# Altium schematic symbol library BIB SCH GERAL.SchLib: 587 symbols (part 4 of 4)
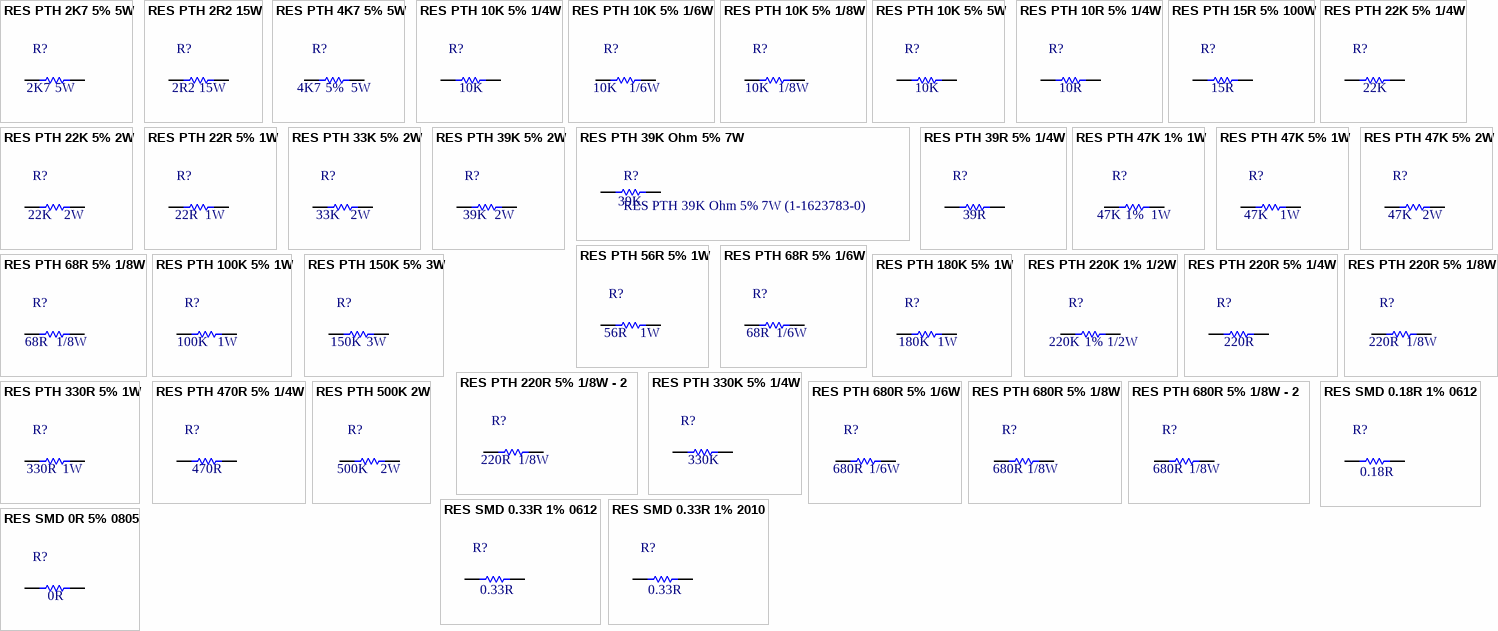
[diagram p18: symbols RES PTH 2K7 5% 5W to RES SMD 0R 5% 0805]

## RES PTH 10K 5% 1/8W
designator R?  value 10K  Power: 1/8W  (hidden comment: RES PTH 10K 5% 1/8W)
COD. CRISTOFOLI: EMP.00305; List: RES 10k OHM 1/8W 5% CF AXIAL//Generic; Tolerance: 5%
pins: 1, 2

## RES PTH 10K 5% 5W
designator R?  value 10K  (hidden comment: RES PTH 10K 5% 5W)
COD. CRISTOFOLI: EMP.50093; Tolerance: 5%; List: RES PTH 10K 5% 5W; Power: 5W
footprint RES5WVERT
pins: 1, 2

## RES PTH 10R 5% 1/4W
designator R?  value 10R  (hidden comment: RES PTH 10R 5% 1/4W)
COD. CRISTOFOLI: EMP.00194; List: RES 10 OHM 1/4W 5% AXIAL/CFR-25JB-52-10R/Yageo/Generic; Tolerance: 5%
pins: 1, 2

## RES PTH 15R 5% 100W
designator R?  value 15R  (hidden comment: RES PTH 15R 5% 100W)
COD. CRISTOFOLI: EMP.50003; Tolerance: 5%; List: RES PTH 15R 5% 100W
footprint RES100W
pins: 1, 2

## RES PTH 22K 5% 1/4W
designator R?  value 22K  (hidden comment: RES PTH 22K 5% 1/4W)
COD. CRISTOFOLI: EMP.00081; List: RES 22.0K OHM 1/4W 5% AXIAL - 1625875-6; Tolerance: 5%
pins: 1, 2

## RES PTH 22K 5% 2W
designator R?  value 22K  Power: 2W  (hidden comment: RES PTH 22K 5% 2W)
COD. CRISTOFOLI: EMP.00273; List: RES 22K OHM 2W 5% AXIAL//generic; Tolerance: 5%
pins: 1, 2

## RES PTH 22R 5% 1W
designator R?  value 22R  Power: 1W  (hidden comment: RES PTH 22R 5% 1W)
COD. CRISTOFOLI: EMP.50158; Tolerance: 5%; List: RES PTH 22R 5% 1W
footprint RES1W
pins: 1, 2

## RES PTH 33K 5% 2W
designator R?  value 33K  Power: 2W  (hidden comment: RES PTH 33K 5% 2W)
COD. CRISTOFOLI: EMP.00175; List: RES 33.0K OHM 2W 5% AXIAl/4-1625890-2/TE Connectivity; Tolerance: 5%
pins: 1, 2

## RES PTH 39K 5% 2W
designator R?  value 39K  Power: 2W  (hidden comment: RES PTH 39K 5% 2W)
COD. CRISTOFOLI: EMP.00102; List: RES 39K OHM 2W 5% RADIAL/ERG-2SJ393E/Panasonic Electronic Components; Tolerance: 5%
pins: 1, 2

## RES PTH 39K Ohm 5% 7W
designator R?, comment RES PTH 39K Ohm 5% 7W (1-1623783-0)
footprint 1-1623783-0
pins: 1, 2
text: 39K

## RES PTH 39R 5% 1/4W
designator R?  value 39R  (hidden comment: RES PTH 39R 5% 1/4W)
COD. CRISTOFOLI: EMP.00070; List: RESISTORES 39 OHM 1/4W 5% AXIAL / CFR-25JB-5239R / Generic; Tolerance: 5%
pins: 1, 2

## RES PTH 47K 1% 1W
designator R?  value 47K  Tolerance: 1%  Power: 1W  (hidden comment: RES PTH 47K 1% 1W)
COD. CRISTOFOLI: EMP.00363; List: RES 47K OHM 1W 1% AXIAL/GENERIC
pins: 1, 2

## RES PTH 47K 5% 1W
designator R?  value 47K  Power: 1W  (hidden comment: RES PTH 47K 5% 1W)
COD. CRISTOFOLI: EMP.00267; List: RES 47K OHM 1W 5% AXIAL/Generic; Tolerance: 5%
pins: 1, 2

## RES PTH 47K 5% 2W
designator R?  value 47K  Power: 2W  (hidden comment: RES PTH 47K 5% 2W)
COD. CRISTOFOLI: EMP.00390; List: RES 47K OHM 2W 5% AXIAL/FMP200JR-52-47K/yageo; Tolerance: 5%
pins: 1, 2

## RES PTH 56R 5% 1W
designator R?  value 56R  Power: 1W  (hidden comment: RES PTH 56R 5% 1W)
COD. CRISTOFOLI: EMP.00355; List: RES 56 OHM 1W 5% CARBON FILM AXIAL /GENERIC; Tolerance: 5%
pins: 1, 2

## RES PTH 68R 5% 1/6W
designator R?  value 68R  Power: 1/6W  (hidden comment: RES PTH 68R 5% 1/6W)
COD. CRISTOFOLI: EMP.00174; List: RESISTOR CARBON 68R 0.25W 5% CR16/CFR16J68R/TE CONNECTIVITY/GENERIC; Tolerance: 5%
pins: 1, 2

## RES PTH 68R 5% 1/8W
designator R?  value 68R  Power: 1/8W  (hidden comment: RES PTH 68R 5% 1/8W)
COD. CRISTOFOLI: EMP.00306; List: RES 68 OHM 1/8W 5% CF AXIAL//Generic; Tolerance: 5%
pins: 1, 2

## RES PTH 100K 5% 1W
designator R?  value 100K  Power: 1W  (hidden comment: RES PTH 100K 5% 1W)
COD. CRISTOFOLI: EMP.00268; List: RES 100K OHM 1W 5% AXIAL/Generic
pins: 1, 2

## RES PTH 150K 5% 3W
designator R?  value 150K  Power: 3W  (hidden comment: RES PTH 150K 5% 3W)
COD. CRISTOFOLI: EMP.50146; Tolerance: 5%; List: RES PTH 150K 5% 3W
footprint RES3WVERT
pins: 1, 2

## RES PTH 180K 5% 1W
designator R?  value 180K  Power: 1W  (hidden comment: RES PTH 180K 5% 1W)
COD. CRISTOFOLI: EMP.00201; List: RES 180K OHM 1W 5% AXIAL/PR01000101803JR500/Vishay BC Components/Generic; Tolerance: 5%
pins: 1, 2

## RES PTH 220K 1% 1/2W
designator R?  value 220K  Tolerance: 1%  Power: 1/2W  (hidden comment: RES PTH 220K 1% 1/2W)
COD. CRISTOFOLI: EMP.00250; List: RES 220K OHM 1/2W 1% AXIAL/HVR3700002203FR500/Vishay BC Components
pins: 1, 2

## RES PTH 220R 5% 1/4W
designator R?  value 220R  (hidden comment: RES PTH 220R 5% 1/4W)
COD. CRISTOFOLI: EMP.00354; List: RES 220 OHM 1/4W 5% CARBON FILM AXIAL /GENERIC; Tolerance: 5%
pins: 1, 2

## RES PTH 220R 5% 1/8W
designator R?  value 220R  Power: 1/8W  (hidden comment: RES PTH 220R 5% 1/8W)
COD. CRISTOFOLI: EMP.00290; List: RES 220 OHM 1/8W 5% CARBON FILM/CF18JT220R/Generic; Tolerance: 5%
pins: 1, 2

## RES PTH 220R 5% 1/8W - 2
designator R?  value 220R  Power: 1/8W  (hidden comment: RES PTH 220R 5% 1/8W - 2)
COD. CRISTOFOLI: EMP.00289; List: MULTICOMP - MCCFR0W8J0221A20 - CARBON FILM RESISTOR, 220 OHM, 125mW, 5%; Tolerance: 5%
pins: 1, 2

## RES PTH 330K 5% 1/4W
designator R?  value 330K  (hidden comment: RES PTH 330K 5% 1/4W)
COD. CRISTOFOLI: EMP.00330; List: RES 330K OHM 1/4W 5% AXIAL/CFR-25JB-52-330K/Generic; Tolerance: 5%
pins: 1, 2

## RES PTH 330R 5% 1W
designator R?  value 330R  Power: 1W  (hidden comment: RES PTH 330R 5% 1W)
COD. CRISTOFOLI: EMP.00195; List: RES 330 OHM 1W 5% AXIAL/PR01000103300JA100/Vishay BC Components; Tolerance: 5%
pins: 1, 2

## RES PTH 470R 5% 1/4W
designator R?  value 470R  (hidden comment: RES PTH 470R 5% 1/4W)
COD. CRISTOFOLI: EMP.00068; List: RESISTORES axial 470 OHM 1/4W 5% CARBON FILM / CF14JT470R / Generic; Tolerance: 5%
pins: 1, 2

## RES PTH 500K 2W
designator R?  value 500K  Power: 2W  (hidden comment: RES PTH 500K 2W)
COD. CRISTOFOLI: EMP.50157; Tolerance: 5%; List: RES PTH 500K 2W
footprint RES2W VERTICAL
footprint RES2W
pins: 1, 2

## RES PTH 680R 5% 1/6W
designator R?  value 680R  Power: 1/6W  (hidden comment: RES PTH 680R 5% 1/6W)
COD. CRISTOFOLI: EMP.00171; List: RESISTOR, CARBON , 680R, 0.25W, 5% CR16/CFR16J680R/TE CONNECTIVITY/Generic; Tolerance: 5%
pins: 1, 2

## RES PTH 680R 5% 1/8W
designator R?  value 680R  Power: 1/8W  (hidden comment: RES PTH 680R 5% 1/8W)
COD. CRISTOFOLI: EMP.00293; List: RES 680 OHM 1/8W 5% CARBON FILM AXIAL/Generic; Tolerance: 5%
pins: 1, 2

## RES PTH 680R 5% 1/8W - 2
designator R?  value 680R  Power: 1/8W  (hidden comment: RES PTH 680R 5% 1/8W - 2)
COD. CRISTOFOLI: EMP.00303; List: RES 680 OHM 1/8W 5% CF AXIAL//Generic; Tolerance: 5%
pins: 1, 2

## RES SMD 0.18R 1% 0612
designator R?  value 0.18R  (hidden comment: RES SMD 0.18R 1% 0612)
Thick Film Resistors - SMD 0612 1W 1% 180mOhm AEC-Q200; Manufacturer: KOA; Manufacturer Part Number: WK73S2HTTER180F; COD. CRISTOFOLI: EMP.00000; List: RES 0.18 OHM 1W 5% 0612 SMD/WK73S2HTTER180F/KOA SPEER; Tolerance: 1%
pins: 1, 2

## RES SMD 0.33R 1% 0612
designator R?  value 0.33R  (hidden comment: RES SMD 0.33R 1% 0612)
Thick Film Resistors - SMD 1W, 0.33ohm, 1%; Manufacturer: KOA SPEER; Manufacturer Part Number: WK73S2HTTER330F; COD. CRISTOFOLI: EMP.00000; List: RES 0.33 OHM 1W 1% 0612 SMD/WK73S2HTTER330F/KOA SPEER; Tolerance: 1%
pins: 1, 2

## RES SMD 0.33R 1% 2010
designator R?  value 0.33R  (hidden comment: RES SMD 0.33R 1% 2010)
Thick Film Resistors - SMD ResHighPowerA 2010 R330 1% 1W TC100; Manufacturer: BOURNS; Manufacturer Part Number: CRM2010A-FX-R330ELF; COD. CRISTOFOLI: EMP.00000; List: RES 0.33 OHM 1W 1% 2010 SMD/CRM2010A-FX-R330ELF/BOURNS; Tolerance: 1%
pins: 1, 2

## RES SMD 0R 5% 0805
designator R?  value 0R  (hidden comment: RES SMD 0R 5% 0805)
COD. CRISTOFOLI: EMP.00109; List: RES 0.0 OHM 1/8W JUMP 0805 SMD/ERJ-6GEY0R00V/Panasonic Electronic Components; Tolerance: 5%
footprint res0805ok
pins: 1, 2

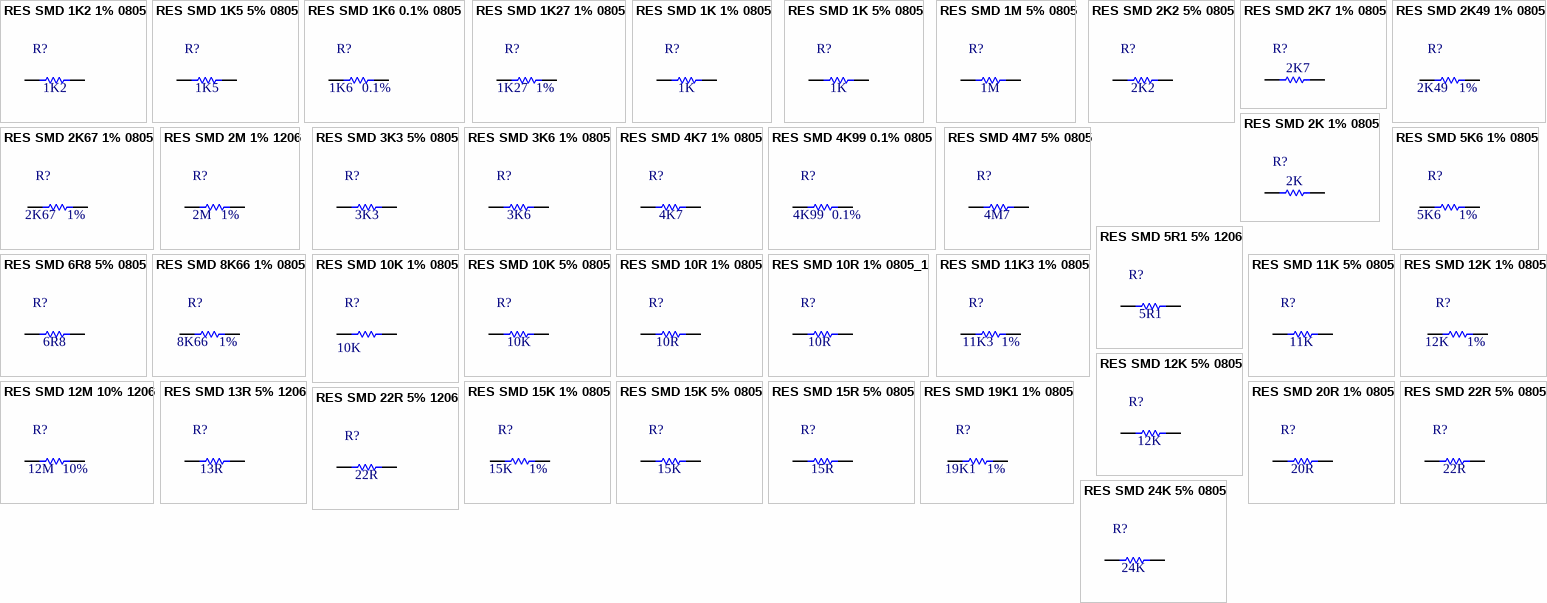
[diagram p12: symbols RES SMD 1K2 1% 0805 to RES SMD 24K 5% 0805]

## RES SMD 1K2 1% 0805
designator R?  value 1K2  (hidden comment: RES SMD 1K2 1% 0805)
COD. CRISTOFOLI: EMP.50111; List: RES SMD 1K2 1% 0805; Tolerance: 1%
footprint res0805ok
pins: 1, 2

## RES SMD 1K5 5% 0805
designator R?  value 1K5  (hidden comment: RES SMD 1K5 5% 0805)
COD. CRISTOFOLI: EMP.00138; List: RES 1.5K OHM 1/8W 5% 0805 SMD/ERJ-6GEYJ152V/Panasonic; Tolerance: 5%
footprint res0805ok
pins: 1, 2

## RES SMD 1K6 0.1% 0805
designator R?  value 1K6  Tolerance: 0.1%  (hidden comment: RES SMD 1K6 0.1% 0805)
COD. CRISTOFOLI: EMP.00204; List: RES 1.6K OHM 1/8W .1% 0805 SMD/ERA-6AEB162V/Panasonic Electronic Components/Generic
footprint res0805ok
pins: 1, 2

## RES SMD 1K27 1% 0805
designator R?  value 1K27  Tolerance: 1%  (hidden comment: RES SMD 1K27 1% 0805)
COD. CRISTOFOLI: EMP.00198; List: RES 1.27K OHM 1/8W 1% 0805 SMD/RC0805FR-071K27L/Yageo/Generic
footprint res0805ok
pins: 1, 2

## RES SMD 1K 1% 0805
designator R?  value 1K  (hidden comment: RES SMD 1K 1% 0805)
COD. CRISTOFOLI: EMP.50098; List: RES SMD 1K 1% 0805; Tolerance: 1%
footprint res0805ok
pins: 1, 2

## RES SMD 1K 5% 0805
designator R?  value 1K  (hidden comment: RES SMD 1K 5% 0805)
COD. CRISTOFOLI: EMP.00016; List: RESISTORES – SMD 1K OHM 5% - YAGEO RC0805JR-071KL / ROHM MCR10EZHJ102/Generic; Tolerance: 5%
footprint res0805ok
pins: 1, 2

## RES SMD 1M 5% 0805
designator R?  value 1M  (hidden comment: RES SMD 1M 5% 0805)
COD. CRISTOFOLI: EMP.00017; List: RESISTORES - SMD 1M OHM 5% - YAGEO RC0805JR-071ML; Tolerance: 5%
footprint res0805ok
pins: 1, 2

## RES SMD 2K2 5% 0805
designator R?  value 2K2  (hidden comment: RES SMD 2K2 5% 0805)
COD. CRISTOFOLI: EMP.00071; List: RESISTORES 2.2K OHM 1/8W 5% 0805 SMD / RCG08052K20JNEA / Generic; Tolerance: 5%
footprint res0805ok
pins: 1, 2

## RES SMD 2K7 1% 0805
designator R?  value 2K7  (hidden comment: RES SMD 2K7 1% 0805)
COD. CRISTOFOLI: EMP.50109; List: RES SMD 2K7 1% 0805; Tolerance: 1%
footprint res0805ok
pins: 1, 2

## RES SMD 2K49 1% 0805
designator R?  value 2K49  Tolerance: 1%  (hidden comment: RES SMD 2K49 1% 0805)
COD. CRISTOFOLI: EMP.00397; List: RES SMD 2.49K OHM 1% 1/8W 0805/RC0805FR-072K49L/Yageo
footprint res0805ok
pins: 1, 2

## RES SMD 2K67 1% 0805
designator R?  value 2K67  Tolerance: 1%  (hidden comment: RES SMD 2K67 1% 0805)
COD. CRISTOFOLI: EMP.00358; List: RES SMD 2.67K OHM 1% 1/8W 0805/RC0805FR-072K67L/Panasonic
footprint RES0805OK
footprint res0805ok
pins: 1, 2

## RES SMD 2K 1% 0805
designator R?  value 2K  (hidden comment: RES SMD 2K 1% 0805)
COD. CRISTOFOLI: EMP.50110; List: RES SMD 2K 1% 0805; Tolerance: 1%
footprint res0805ok
pins: 1, 2

## RES SMD 2M 1% 1206
designator R?  value 2M  Tolerance: 1%  (hidden comment: RES SMD 2M 1% 1206)
COD. CRISTOFOLI: EMP.00098; List: RES 2M OHM 1/4W 1% 1206 SMD/ERJ-8ENF2004V/Panasonic Electronic Components
pins: 1, 2

## RES SMD 3K3 5% 0805
designator R?  value 3K3  (hidden comment: RES SMD 3K3 5% 0805)
COD. CRISTOFOLI: EMP.00327; List: RES SMD 3.3K OHM 5% 1/8W 0805/Generic/Generic; Tolerance: 5%
footprint res0805ok
pins: 1, 2

## RES SMD 3K6 1% 0805
designator R?  value 3K6  (hidden comment: RES SMD 3K6 1% 0805)
COD. CRISTOFOLI: EMP.50104; Tolerance: 1%; List: RES SMD 3K6 1% 0805
footprint res0805ok
pins: 1, 2

## RES SMD 4K7 1% 0805
designator R?  value 4K7  (hidden comment: RES SMD 4K7 1% 0805)
COD. CRISTOFOLI: EMP.50103; Tolerance: 1%; List: RES SMD 4K7 1% 0805
footprint res0805ok
pins: 1, 2

## RES SMD 4K99 0.1% 0805
designator R?  value 4K99  Tolerance: 0.1%  (hidden comment: RES SMD 4K99 0.1% 0805)
COD. CRISTOFOLI: EMP.00230; List: RES 4.99K OHM 1/8W 1% 0805/ERA-6AEB4991V/Panasonic Electronic Components/Generic
footprint res0805ok
pins: 1, 2

## RES SMD 4M7 5% 0805
designator R?  value 4M7  (hidden comment: RES SMD 4M7 5% 0805)
COD. CRISTOFOLI: EMP.00247; List: RES SMD 4.7M OHM 5% 1/8W 0805/ERJ-6GEYJ475V/Panasonic Electronic Components; Tolerance: 5%
footprint res0805ok
pins: 1, 2

## RES SMD 5K6 1% 0805
designator R?  value 5K6  Tolerance: 1%  (hidden comment: RES SMD 5K6 1% 0805)
COD. CRISTOFOLI: EMP.00386; List: RES SMD 5.6K OHM 1% 1/8W 0805/Generic
footprint res0805ok
pins: 1, 2

## RES SMD 5R1 5% 1206
designator R?  value 5R1  (hidden comment: RES SMD 5R1 5% 1206)
COD. CRISTOFOLI: EMP.00100; List: RES 5.1 OHM 1/4W 5% 1206 SMD/ERJ-8GEYJ5R1V/Panasonic; Tolerance: 5%
footprint RES1206
pins: 1, 2

## RES SMD 6R8 5% 0805
designator R?  value 6R8  (hidden comment: RES SMD 6R8 5% 0805)
COD. CRISTOFOLI: EMP.00096; List: RES 6.8 OHM 1/8W 5% 0805 SMD/ERJ-6GEYJ6R8V/Panasonic/Generic; Tolerance: 5%
footprint res0805ok
pins: 1, 2

## RES SMD 8K66 1% 0805
designator R?  value 8K66  Tolerance: 1%  (hidden comment: RES SMD 8K66 1% 0805)
COD. CRISTOFOLI: EMP.00347; List: RES SMD 8.66K OHM 1% 1/8W 0805/ERJ-6ENF8661V/Panasonic
footprint res0805ok
pins: 1, 2

## RES SMD 10K 1% 0805
designator R?  value 10K  (hidden comment: RES SMD 10K 1% 0805)
COD. CRISTOFOLI: EMP.50116; List: RES SMD 10K 1% 0805; Tolerance: 1%
footprint res0805ok
pins: 1, 2

## RES SMD 10K 5% 0805
designator R?  value 10K  (hidden comment: RES SMD 10K 5% 0805)
COD. CRISTOFOLI: EMP.00015; List: RESISTORES - SMD 10K OHM 5% - YAGEO RC0805JR-0710KL / ROHM MCR10EZHJ103/Generic; Tolerance: 5%
footprint res0805ok
pins: 1, 2

## RES SMD 10R 1% 0805
designator R?  value 10R  (hidden comment: RES SMD 10R 1% 0805)
COD. CRISTOFOLI: EMP.50001; List: RES SMD 10R 1% 0805; Tolerance: 1%
footprint res0805ok
pins: 1, 2

## RES SMD 10R 1% 0805_1
designator R?, comment value 10R  (hidden comment: RES SMD 10R 1% 0805)
COD. CRISTOFOLI: EMP.50001; List: RES SMD 10R 1% 0805; Tolerance: 1%
footprint res0805ok
pins: 1, 2

## RES SMD 11K3 1% 0805
designator R?  value 11K3  Tolerance: 1%  (hidden comment: RES SMD 11K3 1% 0805)
COD. CRISTOFOLI: EMP.00107; List: RES 11.3K OHM 1/8W 1% 0805 SMD/RC0805FR-0711K3L/Yageo
footprint res0805ok
pins: 1, 2

## RES SMD 11K 5% 0805
designator R?  value 11K  (hidden comment: RES SMD 11K 5% 0805)
COD. CRISTOFOLI: EMP.00092; List: RES 11K OHM 1/8W 5% 0805 SMD/ERJ-6GEYJ113V/Yageo; Tolerance: 5%
footprint res0805ok
pins: 1, 2

## RES SMD 12K 1% 0805
designator R?  value 12K  Tolerance: 1%  (hidden comment: RES SMD 12K 1% 0805)
COD. CRISTOFOLI: EMP.00345; List: RES SMD 12K OHM 1% 1/8W 0805/RC0805FR-0712KL/Yageo
footprint res0805ok
pins: 1, 2

## RES SMD 12K 5% 0805
designator R?  value 12K  (hidden comment: RES SMD 12K 5% 0805)
COD. CRISTOFOLI: EMP.00063; List: RESISTORES 12K OHM 1/8W 5% 0805 SMD / ERJ-6GEYJ123V / Generic; Tolerance: 5%
footprint res0805ok
pins: 1, 2

## RES SMD 12M 10% 1206
designator R?  value 12M  Tolerance: 10%  (hidden comment: RES SMD 12M 10% 1206)
COD. CRISTOFOLI: EMP.00091; List: RES 12M OHM 1/4W 10% 1206 SMD/RJ-8GEYK126V/Yageo
footprint res1206
pins: 1, 2

## RES SMD 13R 5% 1206
designator R?  value 13R  (hidden comment: RES SMD 13R 5% 1206)
Manufacturer: YAGEO; Manufacturer Part Number: RC1206JR-0713RL; COD. CRISTOFOLI: EMP.00439; List: RES SMD 13 OHM 5% 1/4W 1206 / RC1206JR-0713RL; Tolerance: 5%
footprint res1206
pins: 1, 2

## RES SMD 15K 1% 0805
designator R?  value 15K  Tolerance: 1%  (hidden comment: RES SMD 15K 1% 0805)
COD. CRISTOFOLI: EMP.00407; List: RES SMD 15K OHM 1 % 1/8W 0805/Generic
footprint res0805ok
pins: 1, 2

## RES SMD 15K 5% 0805
designator R?  value 15K  (hidden comment: RES SMD 15K 5% 0805)
COD. CRISTOFOLI: EMP.00163; List: RES 15K OHM 1/8W 5% 0805 SMD/ ERJ-6GEYJ153V/Panasonic; Tolerance: 5%
footprint res0805ok
pins: 1, 2

## RES SMD 15R 5% 0805
designator R?  value 15R  (hidden comment: RES SMD 15R 5% 0805)
COD. CRISTOFOLI: EMP.00269; List: RES SMD 15 OHM 5% 1/8W 0805/ GENERIC; Tolerance: 5%
footprint res0805ok
pins: 1, 2

## RES SMD 19K1 1% 0805
designator R?  value 19K1  Tolerance: 1%  (hidden comment: RES SMD 19K1 1% 0805)
COD. CRISTOFOLI: EMP.00349; List: RES SMD 19.1K OHM 1% 1/8W 0805/RC0805FR-0719K1L/Yageo
footprint res0805ok
pins: 1, 2

## RES SMD 20R 1% 0805
designator R?  value 20R  (hidden comment: RES SMD 20R 1% 0805)
COD. CRISTOFOLI: EMP.50100; Tolerance: 1%; List: RES SMD 20R 1% 0805
footprint res0805ok
pins: 1, 2

## RES SMD 22R 5% 0805
designator R?  value 22R  (hidden comment: RES SMD 22R 5% 0805)
COD. CRISTOFOLI: EMP.00126; List: RES 22 OHM 1/8W 5% 0805/RMCF0805JT22R0/Generic; Tolerance: 5%
footprint res0805ok
pins: 1, 2

## RES SMD 22R 5% 1206
designator R?  value 22R  (hidden comment: RES SMD 22R 5% 1206)
Manufacturer: YAGEO; Manufacturer Part Number: AC1206JR-0722RL; COD. CRISTOFOLI: EMP.00458; Voltage: 200V; List: RES 22 OHM 1/4W 5% 1206 SMD; Tolerance: 5%
footprint RES1206
pins: 1, 2

## RES SMD 24K 5% 0805
designator R?  value 24K  (hidden comment: RES SMD 24K 5% 0805)
COD. CRISTOFOLI: EMP.00139; List: RES 24K OHM 1/8W 5% 0805 SMD/ERJ-6GEYJ243V/Panasonic; Tolerance: 5%
footprint res0805ok
pins: 1, 2

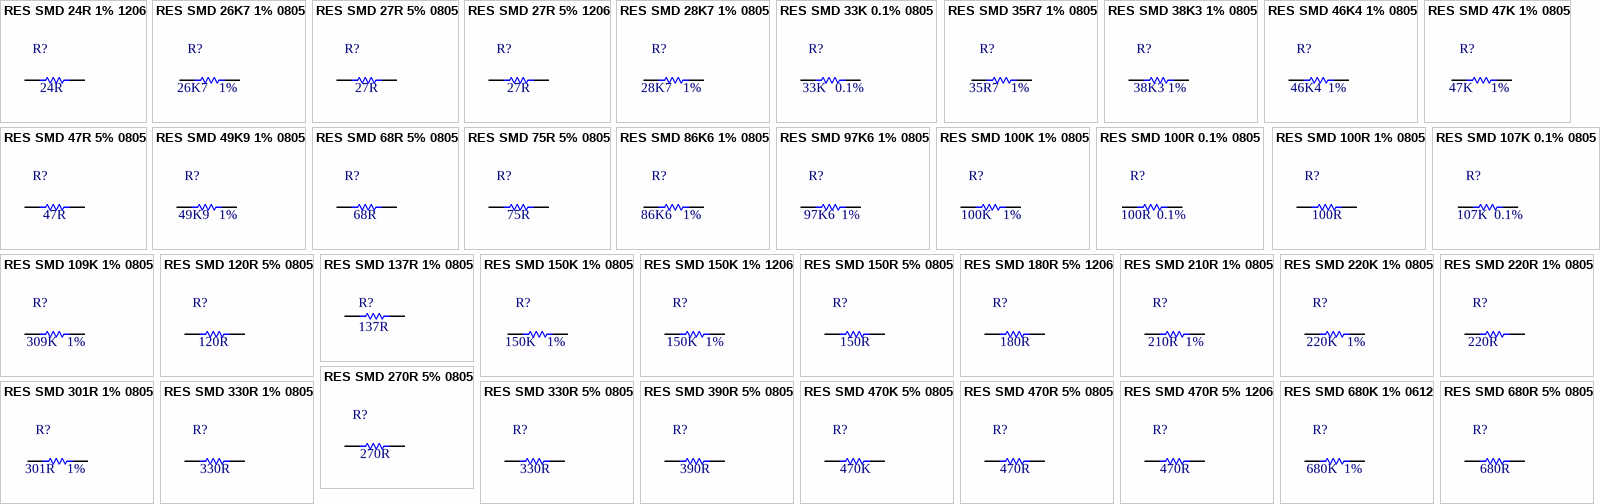
[diagram p13: symbols RES SMD 24R 1% 1206 to RES SMD 680R 5% 0805]

## RES SMD 24R 1% 1206
designator R?  value 24R  (hidden comment: RES SMD 24R 1% 1206)
COD. CRISTOFOLI: EMP.50096; List: RES SMD 24R 1% 1206; Tolerance: 1%
footprint RES1206
pins: 1, 2

## RES SMD 26K7 1% 0805
designator R?  value 26K7  Tolerance: 1%  (hidden comment: RES SMD 26K7 1% 0805)
COD. CRISTOFOLI: EMP.00398; List: RES SMD 26.7K OHM 1% 1/8W 0805/RC0805FR-0726K7L/Yageo
footprint res0805ok
pins: 1, 2

## RES SMD 27R 5% 0805
designator R?  value 27R  (hidden comment: RES SMD 27R 5% 0805)
COD. CRISTOFOLI: EMP.00149; List: RES 27 OHM 1/8W 5% 0805 SMD/ERJ-6GEYJ270V/Panasonic; Tolerance: 5%
footprint res0805ok
pins: 1, 2

## RES SMD 27R 5% 1206
designator R?  value 27R  (hidden comment: RES SMD 27R 5% 1206)
COD. CRISTOFOLI: EMP.00456; List: RES 27 OHM 1/2W 5% 1206 SMD / CRGH1206J27R; Tolerance: 5%
footprint RES1206
pins: 1, 2

## RES SMD 28K7 1% 0805
designator R?  value 28K7  Tolerance: 1%  (hidden comment: RES SMD 28K7 1% 0805)
COD. CRISTOFOLI: EMP.00340; List: RES SMD 28.7K OHM 1% 1/8W 0805/ERJ-6ENF2872V/Panasonic
footprint res0805ok
pins: 1, 2

## RES SMD 33K 0.1% 0805
designator R?  value 33K  Tolerance: 0.1%  (hidden comment: RES SMD 33K 0.1% 0805)
COD. CRISTOFOLI: EMP.00213; List: RES 33K OHM 1/8W .1% 0805 SMD/ERA-6AEB333V/Panasonic Electronic Components/GENERIC
footprint res0805ok
pins: 1, 2

## RES SMD 35R7 1% 0805
designator R?  value 35R7  Tolerance: 1%  (hidden comment: RES SMD 35R7 1% 0805)
COD. CRISTOFOLI: EMP.00344; List: RES SMD 35.7 OHM 1% 1/8W 0805/RC0805FR-0735R7L/Yageo
footprint res0805ok
pins: 1, 2

## RES SMD 38K3 1% 0805
designator R?  value 38K3  Tolerance: 1%  (hidden comment: RES SMD 38K3 1% 0805)
COD. CRISTOFOLI: EMP.00167; List: RES 38.3K OHM 1/8W 1% 0805 SMD / RC0805FR-0738K3L/Yageo
footprint res0805ok
pins: 1, 2

## RES SMD 46K4 1% 0805
designator R?  value 46K4  Tolerance: 1%  (hidden comment: RES SMD 46K4 1% 0805)
COD. CRISTOFOLI: EMP.00197; List: RES 46.4K OHM 1/8W 1% 0805 SMD/RC0805FR-0746K4L/Yageo/Generic
footprint res0805ok
pins: 1, 2

## RES SMD 47K 1% 0805
designator R?  value 47K  Tolerance: 1%  (hidden comment: RES SMD 47K 1% 0805)
COD. CRISTOFOLI: EMP.00386; List: RES SMD 5.6K OHM 1% 1/8W 0805/Generic
footprint res0805ok
pins: 1, 2

## RES SMD 47R 5% 0805
designator R?  value 47R  (hidden comment: RES SMD 47R 5% 0805)
COD. CRISTOFOLI: EMP.00111; List: RES 47 OHM 1/8W 5% 0805 SMD/ERJ-6GEYJ470V/Panasonic; Tolerance: 5%
footprint res0805ok
pins: 1, 2

## RES SMD 49K9 1% 0805
designator R?  value 49K9  Tolerance: 1%  (hidden comment: RES SMD 49K9 1% 0805)
COD. CRISTOFOLI: EMP.00246; List: RES SMD 49.9K OHM 1% 1/8W 0805/CRCW080549K9FKEB/Vishay Dale
footprint res0805ok
pins: 1, 2

## RES SMD 68R 5% 0805
designator R?  value 68R  (hidden comment: RES SMD 68R 5% 0805)
COD. CRISTOFOLI: EMP.00143; List: RES 68 OHM 1/4W 5% 0805 SMD/ERJ-P06J680V/Panasonic; Tolerance: 5%
footprint res0805ok
pins: 1, 2

## RES SMD 75R 5% 0805
designator R?  value 75R  (hidden comment: RES SMD 75R 5% 0805)
COD. CRISTOFOLI: EMP.00320; List: RES SMD 75 OHM 5% 1/8W 0805/RC2012J750CS/Generic; Power: 1/8W; Tolerance: 5%
footprint res0805ok
pins: 1, 2

## RES SMD 86K6 1% 0805
designator R?  value 86K6  Tolerance: 1%  (hidden comment: RES SMD 86K6 1% 0805)
COD. CRISTOFOLI: EMP.00360; List: RES SMD 86.6K OHM 1% 1/8W 0805/ERJ-6ENF8662V/Panasonic
footprint res0805ok
pins: 1, 2

## RES SMD 97K6 1% 0805
designator R?  value 97K6  Tolerance: 1%  (hidden comment: RES SMD 97K6 1% 0805)
COD. CRISTOFOLI: EMP.00108; List: RES 97,6K  OHM 1/8W 1% 0805 SMD/RC0805FR-0797K6L/Yageo
footprint res0805ok
pins: 1, 2

## RES SMD 100K 1% 0805
designator R?  value 100K  Tolerance: 1%  (hidden comment: RES SMD 100K 1% 0805)
COD. CRISTOFOLI: EMP.00207; List: RES 100K OHM 1/8W 1% 0805 SMD/Panasonic Electronic Components/Generic
footprint res0805ok
pins: 1, 2

## RES SMD 100R 0.1% 0805
designator R?  value 100R  Tolerance: 0.1%  (hidden comment: RES SMD 100R 0.1% 0805)
COD. CRISTOFOLI: EMP.00203; List: RES 100 OHM 1/8W .1% 0805 SMD/ERA-6AEB101V/Panasonic Electronic Components/Generic
footprint res0805ok
pins: 1, 2

## RES SMD 100R 1% 0805
designator R?  value 100R  (hidden comment: RES SMD 100R 1% 0805)
COD. CRISTOFOLI: EMP.50097; List: RES SMD 100R 1% 0805; Tolerance: 1%
footprint res0805ok
pins: 1, 2

## RES SMD 107K 0.1% 0805
designator R?  value 107K  Tolerance: 0.1%  (hidden comment: RES SMD 107K 0.1% 0805)
COD. CRISTOFOLI: EMP.00205; List: RES 107K OHM 1/8W .1% 0805 SMD/P107KDATR-ND/Panasonic Electronic Components/Generic
footprint res0805ok
pins: 1, 2

## RES SMD 109K 1% 0805
designator R?  value 309K  Tolerance: 1%  (hidden comment: RES SMD 109K 1% 0805)
COD. CRISTOFOLI: EMP.00248; List: RES SMD 309K OHM 1% 1/8W 0805/CRCW0805309KFKEA/Vishay Dale
footprint res0805ok
pins: 1, 2

## RES SMD 120R 5% 0805
designator R?  value 120R  (hidden comment: RES SMD 120R 5% 0805)
COD. CRISTOFOLI: EMP.00238; List: RES SMD 120 OHM 5% 1/8W 0805/RMCF0805JT120R/Stackpole Electronics Inc/Generic; Tolerance: 5%
footprint res0805ok
pins: 1, 2

## RES SMD 137R 1% 0805
designator R?  value 137R  (hidden comment: RES SMD 137R 1% 0805)
Manufacturer: YAGEO; Manufacturer Part Number: RC0805FR-07137RL; COD. CRISTOFOLI: EMP.00460; List: RES SMD 137 OHM 1% 1/8W 0805; Tolerance: 1%
footprint res0805ok
pins: 1, 2

## RES SMD 150K 1% 0805
designator R?  value 150K  Tolerance: 1%  (hidden comment: RES SMD 150K 1% 0805)
COD. CRISTOFOLI: EMP.00357; List: RES SMD 150K OHM 1% 1/8W 0805/Generic
footprint res0805ok
pins: 1, 2

## RES SMD 150K 1% 1206
designator R?  value 150K  Tolerance: 1%  (hidden comment: RES SMD 150K 1% 1206)
COD. CRISTOFOLI: EMP.00176; List: Resistors - SMD 1206 150Kohms 1% 1/4W/ERJ-S08F1503V/Panasonic/Generic
footprint res1206
pins: 1, 2

## RES SMD 150R 5% 0805
designator R?  value 150R  (hidden comment: RES SMD 150R 5% 0805)
COD. CRISTOFOLI: EMP.00014; List: RESISTORES - SMD 150R OHM 5% SMT 0805 – YAGEO RC0805JR-07150RL / YAGEO RC0805JR-07150RL; Tolerance: 5%
footprint res0805ok
pins: 1, 2

## RES SMD 180R 5% 1206
designator R?  value 180R  (hidden comment: RES SMD 180R 5% 1206)
COD. CRISTOFOLI: EMP.00275; List: RES SMD 180 OHM 5% 1/4W 1206/ Generic; Tolerance: 5%
footprint res1206
pins: 1, 2

## RES SMD 210R 1% 0805
designator R?  value 210R  Tolerance: 1%  (hidden comment: RES SMD 210R 1% 0805)
COD. CRISTOFOLI: EMP.00166; List: RES 210 OHM 1/8W 1% 0805 SMD/ RC0805FR-07210RL/Yageo
footprint res0805ok
pins: 1, 2

## RES SMD 220K 1% 0805
designator R?  value 220K  Tolerance: 1%  (hidden comment: RES SMD 220K 1% 0805)
COD. CRISTOFOLI: EMP.00281; List: RES SMD 220K OHM 1% 1/8W 0805/Generic
footprint res0805ok
pins: 1, 2

## RES SMD 220R 1% 0805
designator R?  value 220R  (hidden comment: RES SMD 220R 1% 0805)
COD. CRISTOFOLI: EMP.50113; List: RES SMD 220R 1% 0805; Tolerance: 1%
footprint res0805ok
pins: 1, 2

## RES SMD 270R 5% 0805
designator R?  value 270R  (hidden comment: RES SMD 270R 5% 0805)
COD. CRISTOFOLI: EMP.00064; List: RESISTORES 270 OHM 1/8W 5% 0805 / RMCF0805JT270R / Generic; Tolerance: 5%
footprint res0805ok
pins: 1, 2

## RES SMD 301R 1% 0805
designator R?  value 301R  Tolerance: 1%  (hidden comment: RES SMD 301R 1% 0805)
COD. CRISTOFOLI: EMP.00359; List: RES SMD 301 OHM 1% 1/8W 0805/ERJ-6ENF3010V/Panasonic
footprint res0805ok
pins: 1, 2

## RES SMD 330R 1% 0805
designator R?  value 330R  (hidden comment: RES SMD 330R 1% 0805)
COD. CRISTOFOLI: EMP.50102; Tolerance: 1%; List: RES SMD 330R 1% 0805
footprint res0805ok
pins: 1, 2

## RES SMD 330R 5% 0805
designator R?  value 330R  (hidden comment: RES SMD 330R 5% 0805)
COD. CRISTOFOLI: EMP.00239; List: RES SMD 330 OHM 5% 1/8W 0805/RMCF0805JT330R/Stackpole Electronics Inc/Generic; Tolerance: 5%
footprint res0805ok
pins: 1, 2

## RES SMD 390R 5% 0805
designator R?  value 390R  (hidden comment: RES SMD 390R 5% 0805)
COD. CRISTOFOLI: EMP.00113; List: RES 390 OHM 1/8W 5% 0805 SMD/ERJ-6GEYJ391V/Panasonic; Tolerance: 5%
footprint res0805ok
pins: 1, 2

## RES SMD 470K 5% 0805
designator R?  value 470K  (hidden comment: RES SMD 470K 5% 0805)
COD. CRISTOFOLI: EMP.00280; List: RES SMD 470K OHM 5% 1/8W 0805/generic; Tolerance: 5%
footprint res0805ok
pins: 1, 2

## RES SMD 470R 5% 0805
designator R?  value 470R
COD. CRISTOFOLI: EMP.00069; Tolerance: 5%; List: RESISTORES 470 OHM 1/8W 5% 0805 SMD / ERJ-6GEYJ471V / Generic
footprint res0805ok
pins: 1, 2

## RES SMD 470R 5% 1206
designator R?  value 470R  (hidden comment: RES SMD 470R 5% 1206)
COD. CRISTOFOLI: EMP.00202; List: RES 470 OHM 1/4W 5% 1206 SMD/RC1206JR-07470RL/Yageo/Generic; Tolerance: 5%
footprint res1206
pins: 1, 2

## RES SMD 680K 1% 0612
designator R?, comment value 680K  Tolerance: 1%  (hidden comment: RES SMD 680K 1% 1206)
COD. CRISTOFOLI: EMP.00067; List: RESISTORES 680K OHM 1/4W 1% 1206 SMD / ERJ-8ENF6803V / Generic
footprint res1206
pins: 1, 2

## RES SMD 680R 5% 0805
designator R?  value 680R  (hidden comment: RES SMD 680R 5% 0805)
COD. CRISTOFOLI: EMP.00145; List: RES 680 OHM 1/8W 5% 0805 SMD/ERJ-6GEYJ681V/Panasonic; Tolerance: 5%
footprint res0805ok
pins: 1, 2

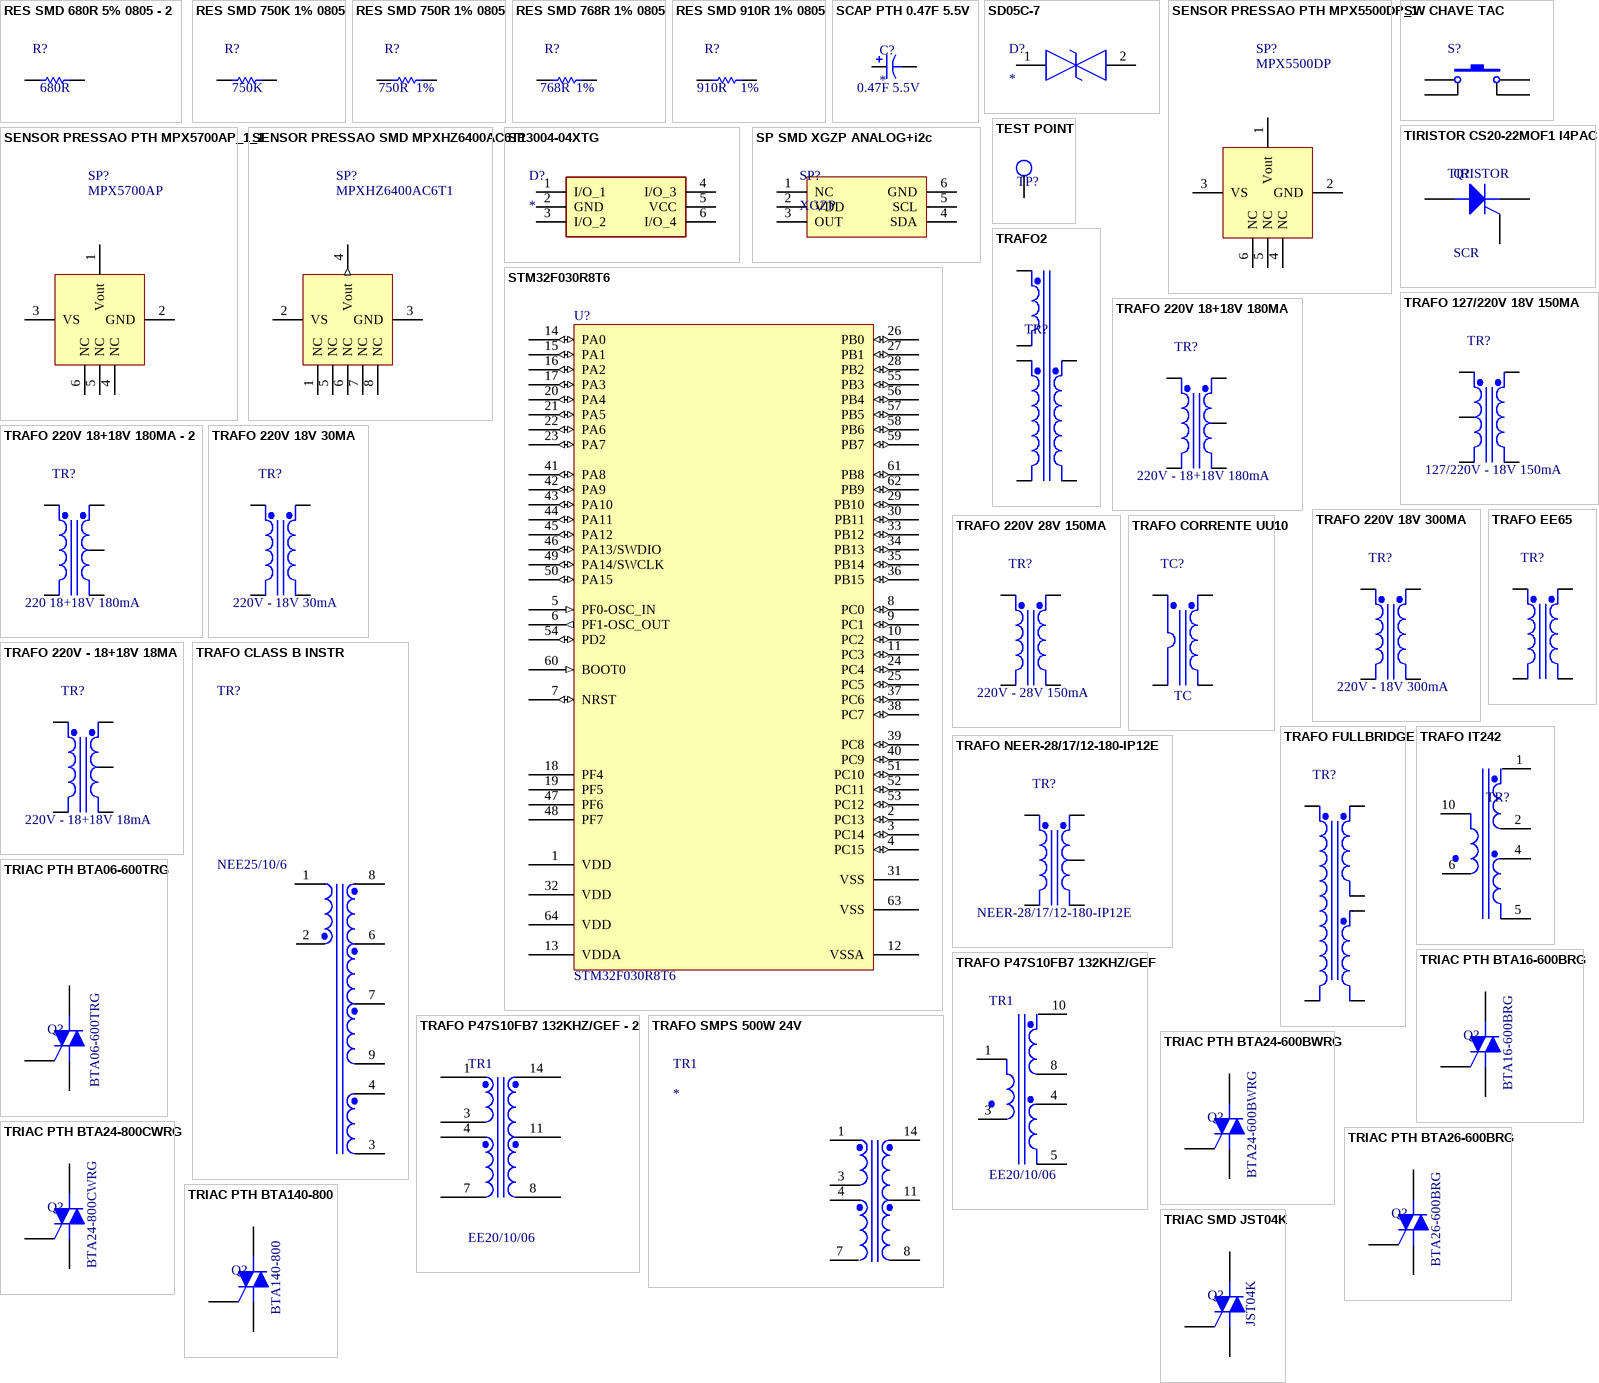
[diagram p14: symbols RES SMD 680R 5% 0805 - 2 to TRIAC SMD JST04K]

## RES SMD 680R 5% 0805 - 2
designator R?  value 680R  (hidden comment: RES SMD 680R 5% 0805 - 2)
COD. CRISTOFOLI: EMP.00180; List: RES 680 OHM 1/8W 5% 0805 SMD/CRCW0805680RJNEA/Vishay Dale/Generic; Tolerance: 5%
footprint res0805ok
pins: 1, 2

## RES SMD 750K 1% 0805
designator R?  value 750K  (hidden comment: RES SMD 750K 1% 0805)
COD. CRISTOFOLI: EMP.50159; Tolerance: 1%; List: RES SMD 750K 1% 0805
footprint res0805ok
pins: 1, 2

## RES SMD 750R 1% 0805
designator R?  value 750R  Tolerance: 1%  (hidden comment: RES SMD 750R 1% 0805)
COD. CRISTOFOLI: EMP.00066; List: RESISTORES 750 OHM 1/8W 1% 0805 SMD / ERJ-6ENF7500V / Generic
footprint res0805ok
pins: 1, 2

## RES SMD 768R 1% 0805
designator R?  value 768R  Tolerance: 1%  (hidden comment: RES SMD 768R 1% 0805)
COD. CRISTOFOLI: EMP.00112; List: RES 768 OHM 1/8W 1% 0805 SMD/RC0805FR-07768RL/Yageo
footprint res0805ok
pins: 1, 2

## RES SMD 910R 1% 0805
designator R?  value 910R  Tolerance: 1%  (hidden comment: RES SMD 910R 1% 0805)
COD. CRISTOFOLI: EMP.00346; List: RES SMD 910 OHM 1% 1/8W 0805/ERJ-6ENF9100V/Panasonic
footprint res0805ok
pins: 1, 2

## SCAP PTH 0.47F 5.5V
designator C?
Supercapacitors / Ultracapacitors 0.47F 5.5V -20+80% Type H
footprint CAP11.5X4.5X5
pins: 1, 2
text: 0.47F 5.5V

## SD05C-7
designator D?
TVS Diode (Bi-directional); Manufacturer_Name: Diodes Incorporated; Manufacturer_Part_Number: SD05C-7; Datasheet Link: https://www.diodes.com//assets/Datasheets/SD05C.pdf; Height: 1.2mm; Mouser Part Number: 621-SD05C-7; Mouser Price/Stock: https://www.mouser.co.uk/ProductDetail/Diodes-Incorporated/SD05C-7?qs=lQAVKuKFhkJ%252Bbajm903DcQ%3D%3D; Arrow Part Number: SD05C-7; Arrow Price/Stock: https://www.arrow.com/en/products/sd05c-7/diodes-incorporated?utm_currency=USD&region=nac
footprint SOD2513X120N
pins: 1, 2

## SENSOR PRESSAO PTH MPX5500DP_1
designator SP?, comment MPX5500DP
IC SENSOR PRESS GAUGE 75PSI RANG; Manufacturer: Freescale Semiconductor; Pressure Type: Differential; Operating Pressure: 72.5 PSI; Port Size: Male, 0.194" (4.9276mm) Tube, Dual; Output: 0.2 V ~ 4.7 V; Accuracy: ±2.5%; Voltage - Supply: 4.75 V ~ 5.25 V; EMP: EMP.00072; list: IC SENSOR PRESS GAUGE 75PSI RANG / MPX5500DP / Freescale; preço: 8,53; Supplier 1: Digi-Key; Manufacturer Part Number: MPX5500DP; RoHS: RoHS Compliant; Category: Sensors, Transducers; Stock 1: 733; Pricing 1: 1=10.1, 10=9.537, 25=8.976, 100=7.293 (USD); Termination Style: PCB; Operating Temperature: -40°C ~ 125°C; Package / Case: 6-SIP Module; Factory Setting: -; ComponentLink1URL: http://cache.freescale.com/files/sensors/doc/data_sheet/MPX5500.pdf; ComponentLink1Description: http://cache.freescale.com/files/sensors/doc/data_sheet/MPX5500.pdf; Supplier Part Number 1: MPX5500DP-ND
footprint MPX5500_90
pins: 1 Vout, 2 GND, 3 VS, 4 NC, 5 NC, 6 NC

## SENSOR PRESSAO PTH MPX5700AP_1_1
designator SP?, comment MPX5700AP
IC PRESSURE SENSOR ABS 6-SIP; Manufacturer: Freescale Semiconductor; Pressure Type: ABSOLUTE; Operating Pressure: 2.18~101.53 PSI; Port Size: Male, 0.194" (4.9276mm) Tube, Dual; Output: 0.2 V ~ 4.7 V; Accuracy: ±2.5%; Voltage - Supply: 4.75 V ~ 5.25 V; EMP. CRISTOFOLI: EMP.00433; list: ABSOLUTE PRESSURE SENSOR 15KPA~700KPA/MPX5700AP; Supplier 1: Digi-Key; Manufacturer Part Number: MPX5700AP; RoHS: RoHS Compliant; Category: Sensors, Transducers; Stock 1: 733; Pricing 1: 1=10.1, 10=9.537, 25=8.976, 100=7.293 (USD); Termination Style: PCB; Operating Temperature: -40°C ~ 125°C; Package / Case: 6-SIP Module; Factory Setting: -; ComponentLink1Description: https://www.nxp.com/docs/en/data-sheet/MPX5700.pdf
footprint MPX5500
pins: 1 Vout, 2 GND, 3 VS, 4 NC, 5 NC, 6 NC

## SENSOR PRESSAO SMD MPXHZ6400AC6T1
designator SP?, comment MPXHZ6400AC6T1
SENSOR PRESSURE ABS AXIAL 8-SSOP; Manufacturer: NXP USA Inc; Pressure Type: ABSOLUTE; Operating Pressure: 2.9PSI ~ 58.02PSI; Port Size: Male - 0.13" (3.3mm) Tube; Output: 0.2 V ~ 4.8 V; Accuracy: ±1.5%; Voltage - Supply: 4.64V ~ 5.36 V; EMP. CRISTOFOLI: EMP.00434; list: MPXH6400A 20 to 400 kPa Absolute; Manufacturer Part Number: MPXHZ6400AC6T1; RoHS: RoHS Compliant; Category: Sensors, Transducers; Termination Style: PCB; Operating Temperature: -40°C ~ 125°C; Package / Case: 8-SOIC; Factory Setting: -; ComponentLink1Description: https://www.nxp.com/docs/en/data-sheet/MPXH6400A.pdf
pins: 1 NC, 2 VS (power), 3 GND (power), 4 Vout (out), 5 NC, 6 NC, 7 NC, 8 NC

## SP3004-04XTG
designator D?
TVS Diode (Uni-directional); Manufacturer_Name: LITTELFUSE; Manufacturer_Part_Number: SP3004-04XTG; Datasheet Link: https://m.littelfuse.com/~/media/electronics/datasheets/tvs_diode_arrays/littelfuse_tvs_diode_array_sp3004_datasheet.pdf.pdf; Height: 0.6mm; Mouser Part Number: 576-SP3004-04XTG; Mouser Price/Stock: https://www.mouser.co.uk/ProductDetail/Littelfuse/SP3004-04XTG?qs=trbuaetfxXQ7JjseAkJ3Ww%3D%3D; Arrow Part Number: SP3004-04XTG; Arrow Price/Stock: https://www.arrow.com/en/products/sp3004-04xtg/littelfuse?region=nac
footprint SOTFL50P160X60-6N
pins: 1 I/O_1, 2 GND, 3 I/O_2, 4 I/O_3, 5 VCC, 6 I/O_4

## SP SMD XGZP ANALOG+i2c
designator SP?, comment XGZP
footprint XGPZ
pins: 1 NC, 2 VDD, 3 OUT, 4 SDA, 5 SCL, 6 GND

## STM32F030R8T6
designator U?
STM32 ARM-based 32-bit MCU with 64 Kbytes Flash, 64-pin LQFP, Industrial Temperature; COD. CRISTOFOLI: EMP.00430; list: MICROCONTROLADOR ARM LQFP-64 STM32F030R8T6; Published: 30-May-2008; DatasheetVersion: rev6, Mar-2008; PackageVersion: Mar-2008; PackageReference: LQFP64; Publisher: Altium Limited; PackageDescription: 64-Pin Low-Profile Quad Flat Pack, 10 x 10 mm Body, 0.5 mm Pitch (LQFP64); ComponentLink1Description: Manufacturer Link; ComponentLink1URL: www.st.com/stm32; ComponentLink2Description: Datasheet
footprint LQFP_64_10x10x0.5
pins: 1 VDD (power), 2 PC13 (io), 3 PC14 (io), 4 PC15 (io), 5 PF0-OSC_IN (in), 6 PF1-OSC_OUT (out), 7 NRST (io), 8 PC0 (io), 9 PC1 (io), 10 PC2 (io), 11 PC3 (io), 12 VSSA (power), 13 VDDA (power), 14 PA0 (io), 15 PA1 (io), 16 PA2 (io), 17 PA3 (io), 18 PF4 (power), 19 PF5 (power), 20 PA4 (io), 21 PA5 (io), 22 PA6 (io), 23 PA7 (io), 24 PC4 (io), 25 PC5 (io), 26 PB0 (io), 27 PB1 (io), 28 PB2 (io), 29 PB10 (io), 30 PB11 (io), 31 VSS (power), 32 VDD (power), 33 PB12 (io), 34 PB13 (io), 35 PB14 (io), 36 PB15 (io), 37 PC6 (io), 38 PC7 (io), 39 PC8 (io), 40 PC9 (io), 41 PA8 (io), 42 PA9 (io), 43 PA10 (io), 44 PA11 (io), 45 PA12 (io), 46 PA13/SWDIO (io), 47 PF6 (power), 48 PF7 (power), 49 PA14/SWCLK (io), 50 PA15 (io), 51 PC10 (io), 52 PC11 (io), 53 PC12 (io), 54 PD2 (io), 55 PB3 (io), 56 PB4 (io), 57 PB5 (io), 58 PB6 (io), 59 PB7 (io), 60 BOOT0 (in), 61 PB8 (io), 62 PB9 (io), 63 VSS (power), 64 VDD (power)

## SW CHAVE TAC
designator S?  (value not drawn)
COD. CRISTOFOLI: EMP.00348; List: SWITCH TACTILE SPST-NO 0.05A 24V/1825910-7/TE Connectivity
pins: 1, 2, 3, 4

## TEST POINT
designator TP?  (value not drawn)
footprint TEST POINT
pins: 0

## TIRISTOR CS20-22MOF1 I4PAC
designator Q?, comment SCR  value TIRISTOR
List: TIRISTOR CS20-22MOF1 I4PAC; COD. CRISTOFOLI: EMP.50058
footprint I4PAC
pins: 1 G, 2 K, 3 A

## TRAFO2
designator TR?, comment TRAFO NEER-28/17/12-180-IP12E  (value not drawn)
Manufacturer: GEF; COD. CRISTOFOLI: EMP.00104; List: Transformador  Ferrite NEER-28/17/12-180-IP12E 24V (XP)/NEER-28/17/12-180-IP12E/GEF; Value: 220V - 18+18V 18mA
pins: 1 Pri+, 2 Pri-, 3 Pri+, 4 Pri-, 5 Pri-, 6 Pri+

## TRAFO 127/220V 18V 150MA
designator TR?  value 127/220V - 18V 150mA  (hidden comment: TRAFO 127/220V 18V 150MA)
COD. CRISTOFOLI: EMP.00186; List: Trasnformador  110V 220V  18V  150mA / 11022018150mA/GEF
pins: 1 Pri+, 2 PriCT, 3 Pri-, 4 Sec-, 5 Sec+

## TRAFO 220V 18+18V 180MA
designator TR?  value 220V - 18+18V 180mA  (hidden comment: TRAFO 220V 18+18V 180MA)
COD. CRISTOFOLI: EMP.00377; List: Transformador 220V 18v+18@ 180mA/ Com Chapa de fixação , fios 30cm comp, carretel sem terminal  /GEF
pins: 1 Pri+, 2 Pri-, 3 Sec+, 4 SecCT, 5 Sec-

## TRAFO 220V 18+18V 180MA - 2
designator TR?  value 220 18+18V 180mA  (hidden comment: TRAFO 220V 18+18V 180MA - 2)
COD. CRISTOFOLI: EMP.00301; List: Transformador 220V 18v+18@ 180mA(Vitale)/00301/GEF
pins: 1 Pri+, 2 Pri-, 3 Sec+, 4 SecCT, 5 Sec-

## TRAFO 220V 18V 30MA
designator TR?  value 220V - 18V 30mA  (hidden comment: TRAFO 220V 18V 30MA)
COD. CRISTOFOLI: EMP.00078; List: Transformador 220 V 18V@30mA 18V@200mA / GEF
pins: 1 Pri+, 2 Pri-, 3 Sec-, 4 Sec+

## TRAFO 220V 18V 300MA
designator TR?  value 220V - 18V 300mA  (hidden comment: TRAFO 220V 18V 300MA)
COD. CRISTOFOLI: EMP.00035; List: TRANSFORMADOR 220V/18V@300MA - FERRO SILÍCIO - 30x35mm
pins: 1 Pri+, 2 Pri-, 3 Sec-, 4 Sec+

## TRAFO 220V 28V 150MA
designator TR?  value 220V - 28V 150mA  (hidden comment: TRAFO 220V 28V 150MA)
COD. CRISTOFOLI: EMP.00082; List: TRANSFORMADOR 220V/28V@150MA - FERRO SILÍCIO - 30x35mm
footprint EE25-4P-REF
pins: 1 Pri+, 2 Pri-, 3 Sec-, 4 Sec+

## TRAFO 220V - 18+18V 18MA
designator TR?  value 220V - 18+18V 18mA  (hidden comment: TRAFO 220V - 18+18V 18MA)
COD. CRISTOFOLI: EMP.00367; List: Transformador 220V 18v+18@ 18mA/c/fixaçao( Seladora)/Generic
pins: 1 Pri+, 2 Pri-, 3 Sec+, 4 SecCT, 5 Sec-

## TRAFO CLASS B INSTR
designator TR?, comment NEE25/10/6
Trafo NEE 25/10/6 132KHZ; Manufacturer: TRANSETY; Manufacturer Part Number: FONTE +12,+5,-5; COD. CRISTOFOLI: EMP.00441; list: TRAFO NEE25/10/6 CLASS B / +12,+5,-5
pins: 1, 2, 3, 4, 6, 7, 8, 9

## TRAFO CORRENTE UU10
designator TC?, comment TC
COD. CRISTOFOLI: EMP.00078; List: Transformador 220 V 18V@30mA 18V@200mA / GEF; Value: TC
footprint TRAFO UU10
pins: 1 Sec+, 2 Sec-, 3 Pri-, 4 Pri+

## TRAFO EE65
designator TR?  (value not drawn)
COD. CRISTOFOLI: EMP.50163; Value: 220V - 18V 30mA; List: TRAFO EE65
footprint TRAFO EE65
pins: 1 Pri+, 2 Pri-, 3 Sec-, 4 Sec+

## TRAFO FULLBRIDGE
designator TR?, comment 1:1:1  (value not drawn)
COD. CRISTOFOLI: EMP.00082; List: TRANSFORMADOR 220V/28V@150MA - FERRO SILÍCIO - 30x35mm; Value: 1:1:1
footprint TRAFO EE65 - FULLBRIDGE
pins: 1 Pri+, 2 Pri-, 3 Sec1-, 4 Sec1+, 5 Sec2-, 6 Sec2+

## TRAFO IT242
designator TR?  (value not drawn)
COD. CRISTOFOLI: EMP.50056; List: TRAFO IT242
footprint TRF_DESCARGA_DUPLO
pins: 1, 2, 4, 5, 6, 10

## TRAFO NEER-28/17/12-180-IP12E
designator TR?  Manufacturer Part Number: NEER-28/17/12-180-IP12E  (hidden comment: TRAFO NEER-28/17/12-180-IP12E)
Manufacturer: GEF; COD. CRISTOFOLI: EMP.00104; List: Transformador  Ferrite NEER-28/17/12-180-IP12E 24V (XP)/NEER-28/17/12-180-IP12E/GEF; Value: 220V - 18+18V 18mA
pins: 1 Pri+, 2 Pri-, 3 Sec+, 4 SecCT, 5 Sec-

## TRAFO P47S10FB7 132KHZ/GEF
designator TR1, comment EE20/10/06
Trafo EE 20/10/06   P47S10FB7   132KHZ; Manufacturer: GEF; Manufacturer Part Number: FONTE 24@1A; COD. CRISTOFOLI: EMP.00385; list: Trafo EE 20/10/06     P47S10FB7   132KHZ/GEF
footprint EE20/10 (Footprint not found)
pins: 1, 3, 4, 5, 8, 10

## TRAFO P47S10FB7 132KHZ/GEF - 2
designator TR1, comment EE20/10/06
Trafo EE 20/10/06   P47S10FB7   132KHZ; Manufacturer: GEF; Manufacturer Part Number: FONTE 24@1A; COD. CRISTOFOLI: EMP.00270; list: Trafo EE 20/10/06     P47S10FB7   132KHZ/GEF
footprint EC422
pins: 1, 3, 4, 7, 8, 11, 14

## TRAFO SMPS 500W 24V
designator TR1
footprint EC422
pins: 1, 3, 4, 7, 8, 11, 14

## TRIAC PTH BTA06-600TRG
designator Q?  value BTA06-600TRG  (hidden comment: TRIAC PTH BTA06-600TRG)
Manufacturer: ST Microelectronics; COD. CRISTOFOLI: EMP.00059; List: TRIAC SENS GATE 600V 6A TO220AB / BTA06-600TRG / STMicroelectronics; Manufacturer Part Number: BTA06-600TRG
pins: 1 M1, 2 M2, 3 G

## TRIAC PTH BTA16-600BRG
designator Q?  value BTA16-600BRG  (hidden comment: TRIAC PTH BTA16-600BRG)
Manufacturer: ST MICROELECTRONICS; COD. CRISTOFOLI: EMP.00253; List: Triac; 600V; 16A; 50mA; TO220AB/BTA16-600BRG/ST MICROELECTRONICS//ITEM CRITICO; Manufacturer Part Number: BTA16-600BRG
pins: 1 M1, 2 M2, 3 G

## TRIAC PTH BTA24-600BWRG
designator Q?  value BTA24-600BWRG  (hidden comment: TRIAC PTH BTA24-600BWRG)
Manufacturer: STMicroeletronics; COD. CRISTOFOLI: EMP.00411; List: TRIAC ALTERNISTOR 600V TO220AB/BTA24-600BWRG/STMicroeletronics; Manufacturer Part Number: BTA24-600BWRG
pins: 1 M1, 2 M2, 3 G

## TRIAC PTH BTA24-800CWRG
designator Q?  value BTA24-800CWRG  (hidden comment: TRIAC PTH BTA24-800CWRG)
Manufacturer: STMicroelectronics; COD. CRISTOFOLI: EMP.00231; List: TRIAC ALTERNISTOR 800V TO220AB/BTA24-800CWRG/STMicroelectronics; Manufacturer Part Number: BTA24-800CWRG
pins: 1 M1, 2 M2, 3 G

## TRIAC PTH BTA26-600BRG
designator Q?  value BTA26-600BRG  (hidden comment: TRIAC PTH BTA26-600BRG)
Manufacturer: ST Microelectronics; COD. CRISTOFOLI: EMP.00331; List: TRIAC 600V 25A TOP3/BTA26-600BRG/STMicroelectronics; Manufacturer Part Number: BTA26-600BRG
pins: 1 M1, 2 M2, 3 G

## TRIAC PTH BTA140-800
designator Q?  Manufacturer Part Number: BTA140-800  (hidden comment: TRIAC PTH BTA140-800)
Manufacturer: NXP Semiconductors; COD. CRISTOFOLI: EMP.00058; List: TRIAC 800V 25A TO220AB / BTA140-800,127 / NXP Semiconductors
pins: 1 M1, 2 M2, 3 G

## TRIAC SMD JST04K
designator Q?  Manufacturer Part Number: JST04K
Manufacturer: NXP Semiconductors
footprint TO252-3
pins: 1 M1, 2 M2, 3 G

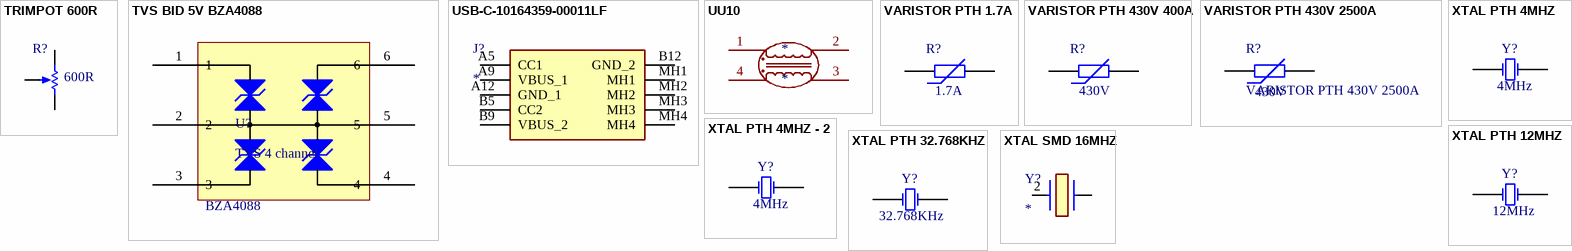
[diagram p15: symbols TRIMPOT 600R to XTAL SMD 16MHZ]

## TRIMPOT 600R
designator R?  value 600R  (hidden comment: TRIMPOT 600R)
Manufacturer Part Number: 3386H-1-601LF; COD. CRISTOFOLI: EMP.00000; List: TRIMMER 600 OHM 3386 /3386H-1-601LF/Bourns Inc.
pins: 1 TOP, 2 TAP, 3 BOT

## TVS BID 5V BZA4088
designator U?, comment TVS 4 channel
ESD Protection Diodes / TVS Diodes BZA408B/SOT457/SC-74
footprint DIO_BAS21VD_165
pins: 1, 2, 3, 4, 5, 6
text: BZA4088

## USB-C-10164359-00011LF
designator J?
Connector; Manufacturer_Name: Amphenol; Manufacturer_Part_Number: 10164359-00011LF; Datasheet Link: https://cdn.amphenol-cs.com/media/wysiwyg/files/drawing/10164359.pdf; Height: 3.41mm; Mouser Part Number: 649-10164359-00011LF; Mouser Price/Stock: https://www.mouser.co.uk/ProductDetail/Amphenol-FCI/10164359-00011LF?qs=MyNHzdoqoQLpQ%2FmSqA1%252BtQ%3D%3D; Arrow Part Number: 10164359-00011LF; Arrow Price/Stock: https://www.arrow.com/en/products/10164359-00011lf/amphenol-fci?region=nac
footprint USB-C-1016435900011LF
pins: A5 CC1, A9 VBUS_1, A12 GND_1, B5 CC2, B9 VBUS_2, B12 GND_2, MH1, MH2, MH3, MH4

## UU10
designator *
footprint UU10
pins: 1, 2, 3, 4

## VARISTOR PTH 1.7A
designator R?  value 1.7A  (hidden comment: VARISTOR PTH 1.7A)
Varistor (Voltage-Sensitive Resistor); COD. CRISTOFOLI: EMP.00083; List: NTC CURRENT LIMITER INRSH 1.7A 10OHM/CL-120/Thermometrics; Published: 24-Mar-1999; LatestRevisionDate: 29-May-2009; LatestRevisionNote: IPC-7351 Footprint Added.; PackageVersion: Mar-2003; PackageReference: 6-0805; PackageDescription: Chip Resistor 0805 Case Size; Code_IPC: RESC2012
footprint 6-0805_N (Chip Resistor, Body 2.0x1.2mm, IPC Medium Density)
footprint 6-0805_L (Chip Resistor, Body 2.0x1.2mm, IPC High Density)
footprint 6-0805_M (Chip Resistor, Body 2.0x1.2mm, IPC Low Density)
pins: 1, 2

## VARISTOR PTH 430V 400A
designator R?  value 430V  (hidden comment: VARISTOR PTH 430V 400A)
Varistor (Voltage-Sensitive Resistor); COD. CRISTOFOLI: EMP.00395; List: VARISTOR 275 VAC 430VDC DISC 5MM/S05K275/EPCOS (TDK); Published: 24-Mar-1999; LatestRevisionDate: 29-May-2009; LatestRevisionNote: IPC-7351 Footprint Added.; PackageVersion: Mar-2003; PackageReference: 6-0805; PackageDescription: Chip Resistor 0805 Case Size; Code_IPC: RESC2012
footprint 6-0805_N (Chip Resistor, Body 2.0x1.2mm, IPC Medium Density)
footprint 6-0805_L (Chip Resistor, Body 2.0x1.2mm, IPC High Density)
footprint 6-0805_M (Chip Resistor, Body 2.0x1.2mm, IPC Low Density)
pins: 1, 2

## VARISTOR PTH 430V 2500A
designator R?  value 430V
Varistor (Voltage-Sensitive Resistor); COD. CRISTOFOLI: EMP.00036; List: VARISTOR 430V(387) 2.5KA DISC 10MM / MOV-10D431KTR / Bourns Inc.; Published: 24-Mar-1999; LatestRevisionDate: 29-May-2009; LatestRevisionNote: IPC-7351 Footprint Added.; PackageVersion: Mar-2003; PackageReference: 6-0805; PackageDescription: Chip Resistor 0805 Case Size; Code_IPC: RESC2012
footprint 6-0805_N (Chip Resistor, Body 2.0x1.2mm, IPC Medium Density)
footprint 6-0805_L (Chip Resistor, Body 2.0x1.2mm, IPC High Density)
footprint 6-0805_M (Chip Resistor, Body 2.0x1.2mm, IPC Low Density)
pins: 1, 2

## XTAL PTH 4MHZ
designator Y?  value 4MHz  (hidden comment: XTAL PTH 4MHZ)
Crystal Oscillator; COD. CRISTOFOLI: EMP.00005; List: RESSONADORES 4.00MHZ +/-0.5% - CRISTAL – AVX PBRC4.00MR50X000; Published: 8-Jun-2000; LatestRevisionDate: 17-Jul-2002; LatestRevisionNote: Re-released for DXP Platform.; PackageReference: R38; Publisher: Altium Limited; PackageDescription: Crystal, Thru-Hole; 2 Leads; Body 3.1 x 8.2 mm (Dia.xH)
footprint R38 (Crystal, Thru-Hole; 2 Leads; Body 3.1 x 8.2 mm (Dia.xH))
simulation model XTAL (Spice Subcircuit)
pins: 1 OSC1, 2 OSC2

## XTAL PTH 4MHZ - 2
designator Y?  value 4MHz  (hidden comment: XTAL PTH 4MHZ - 2)
Crystal Oscillator; COD. CRISTOFOLI: EMP.00295; List: CRYSTAL 4.0000MHZ 20PF T/ECS-40-20-4X/ECS Inc.; Published: 8-Jun-2000; LatestRevisionDate: 17-Jul-2002; LatestRevisionNote: Re-released for DXP Platform.; PackageReference: R38; Publisher: Altium Limited; PackageDescription: Crystal, Thru-Hole; 2 Leads; Body 3.1 x 8.2 mm (Dia.xH)
footprint R38 (Crystal, Thru-Hole; 2 Leads; Body 3.1 x 8.2 mm (Dia.xH))
simulation model XTAL (Spice Subcircuit)
pins: 1 OSC1, 2 OSC2

## XTAL PTH 12MHZ
designator Y?  value 12MHz  (hidden comment: XTAL PTH 12MHZ)
Crystal Oscillator; COD. CRISTOFOLI: EMP.00132; List: Cristais 12MHz 20pF/ECS-120-20-5PXDN-TR/ECS; Published: 8-Jun-2000; LatestRevisionDate: 17-Jul-2002; LatestRevisionNote: Re-released for DXP Platform.; PackageReference: R38; Publisher: Altium Limited; PackageDescription: Crystal, Thru-Hole; 2 Leads; Body 3.1 x 8.2 mm (Dia.xH)
footprint R38 (Crystal, Thru-Hole; 2 Leads; Body 3.1 x 8.2 mm (Dia.xH))
simulation model XTAL (Spice Subcircuit)
pins: 1 OSC1, 2 OSC2

## XTAL PTH 32.768KHZ
designator Y?  value 32.768KHz  (hidden comment: XTAL PTH 32.768KHZ)
Crystal Oscillator; COD. CRISTOFOLI: EMP.00134; List: Cristais 32.768 KHz 12.5pF PLASTIC SMD/CM200C-32.768KDZF-UT/CITZEM; Published: 8-Jun-2000; LatestRevisionDate: 17-Jul-2002; LatestRevisionNote: Re-released for DXP Platform.; PackageReference: R38; Publisher: Altium Limited; PackageDescription: Crystal, Thru-Hole; 2 Leads; Body 3.1 x 8.2 mm (Dia.xH)
footprint R38 (Crystal, Thru-Hole; 2 Leads; Body 3.1 x 8.2 mm (Dia.xH))
simulation model XTAL (Spice Subcircuit)
pins: 1 OSC1, 2 OSC2

## XTAL SMD 16MHZ
designator Y?
Crystal or Oscillator; Manufacturer_Name: Vishay; Manufacturer_Part_Number: XT9M20ANA16M; Datasheet Link: https://componentsearchengine.com/Datasheets/5/XT9M20ANA16M.pdf; Height: 4.5mm; Mouser Part Number: 73-XT49M1600-20; Mouser Price/Stock: https://www.mouser.co.uk/ProductDetail/Vishay-Dale/XT9M20ANA16M?qs=NVJATC80C4%252B3oEpMmPFr7g%3D%3D; Arrow Part Number: XT9M20ANA16M; Arrow Price/Stock: https://www.arrow.com/en/products/xt9m20ana16m/vishay?region=nac
footprint XTAL SMD 16MHZ
pins: 2 CRYSTAL_2, ?1